# Altium footprint library E2S_E2S_030_V1.PcbLib: 3 footprints
Each footprint in its own frame and in the unit in brackets; x right, y up, seen from the top. Pads: shape width x height; smd on the part's side, far side on the other; paste and mask are expansions set on the pad; w line width, h text height; cw(c..) or ccw(c..) is an arc to the next point about the centre after c.
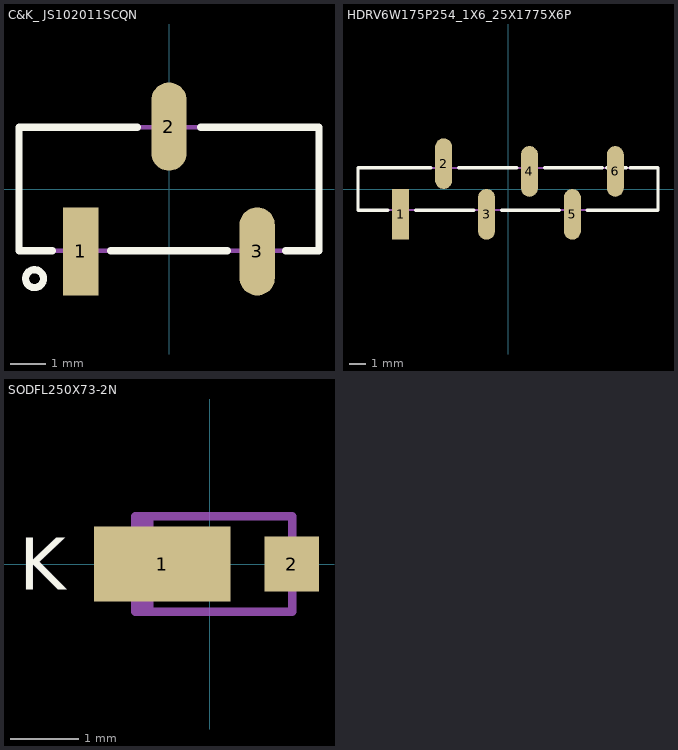
[diagram p0: the footprints below, top view; thin cyan lines are the x and y axes]

## C&K_ JS102011SCQN [mm]
height 5.5
pads (3):
  rect 1x2.5 smd: 1(-2.5,-1.769)
  oval 1x2.5 smd: 2(0,1.769) 3(2.5,-1.769)
Top Overlay:
  circle w0.203: c-3.81,-2.54 r0.254
  lines w0.203: -3.302,-1.75 -4.25,-1.75 -4.25,1.75 -0.889,1.75 ; -1.651,-1.75 1.651,-1.75 ; 0.889,1.75 4.25,1.75 4.25,-1.75 3.302,-1.75
Mechanical 1:
  text "'.Designator'" at 0,0 h1.52
Mechanical 15:
  circle w0.127: c-2.54,-2.286 r0.254
  lines w0.127: -4.25,-1.75 -4.25,1.75 4.25,1.75 4.25,-1.75 -4.25,-1.75
3D body: height 5.5, standoff 0, extent -4.25,-1.75 4.25,1.75

## HDRV6W175P254_1X6_25X1775X6P [mm]
height 6
pads (6):
  rect 1x3 smd: 1(-6.35,-1.502)
  oval 1x3 smd: 2(-3.81,1.502) 3(-1.27,-1.502) 4(1.27,1.038) 5(3.81,-1.502) 6(6.35,1.038)
Top Overlay:
  lines w0.203: -7.112,-1.25 -8.875,-1.25 -8.875,1.25 -4.572,1.25 ; -5.461,-1.25 -2.032,-1.25 ; -2.921,1.25 0.508,1.25 ; -0.381,-1.25 3.048,-1.25 ; 2.159,1.25 5.588,1.25 ; 4.699,-1.25 8.875,-1.25 8.875,1.25 7.239,1.25 ; 5.842,1.25 6.985,1.25
Mechanical 15:
  lines w0.127: -8.875,-1.25 -8.875,1.25 8.875,1.25 8.875,-1.25 -8.875,-1.25
3D body: height 6, standoff 0, extent -8.875,-1.25 8.875,1.25

## SODFL250X73-2N [mm] "SODFL, 2-Leads, Body 1.30x2.50mm, IPC Medium Density"
height 0.73
pads (2):
  rect 2x1.1 smd: 1(-0.696,0)
  rect 0.8x0.8 smd: 2(1.204,0)
Top Overlay:
  text "K" at -2.794,-0.381 h0.76
Mechanical 1:
  text "'.Designator'" at 0,0 h1.52
Mechanical 15:
  lines w0.127: -1.016,-0.7 -1.016,0.7 ; -0.889,-0.7 -0.889,0.7 ; -1.087,-0.7 1.214,-0.7 1.214,0.7 -1.087,0.7 -1.087,-0.7
  text "K" at -2.794,-0.381 h0.76
3D body "SODFL250X73-2N.step": height 0.73, standoff 0, extent -1.187,-0.7 1.314,0.7